# Altium footprint library CR2032-VAY3-15.2.PcbLib: 1 footprints
Each footprint in its own frame and in the unit in brackets; x right, y up, seen from the top. Pads: shape width x height; smd on the part's side, far side on the other; paste and mask are expansions set on the pad; w line width, h text height; cw(c..) or ccw(c..) is an arc to the next point about the centre after c.
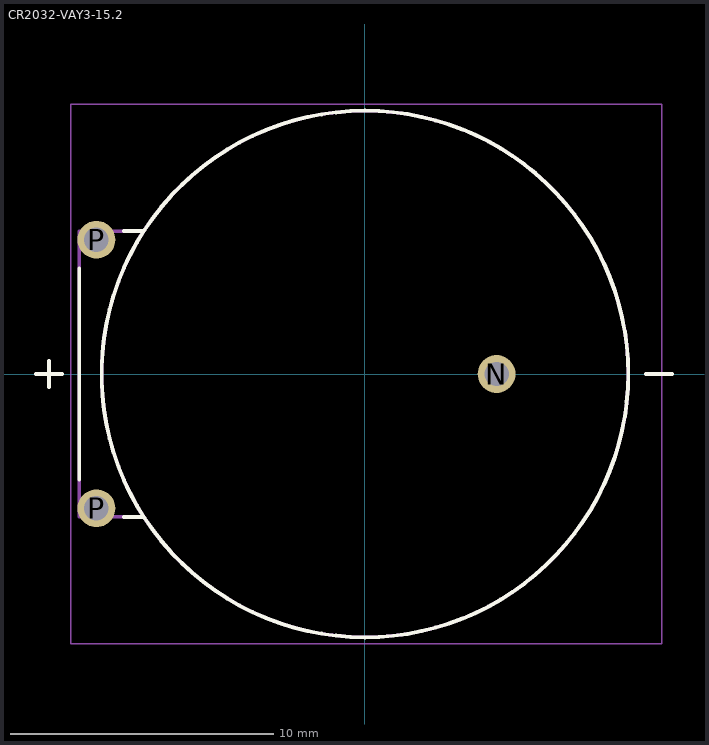
[diagram p0: the footprint, top view; thin cyan lines are the x and y axes]

## CR2032-VAY3-15.2 [mm]
pads (3):
  round 1.438 hole 0.93: N(5,0) P(-10.2,-5.1) P(-10.2,5.1)
Top Overlay:
  lines w0.15: -12.5,0 -11.5,0 ; -12,-0.5 -12,0.5 ; -10.85,-4.011 -10.85,4.011 ; -9.161,-5.425 -8.425,-5.425 ; -9.161,5.425 -8.425,5.425 ; 10.668,0 11.668,0 ; 0,-10 ccw(c0,0) 10,0 ccw(c0,0) 0,10 ccw(c0,0) 0,-10
Mechanical 13:
  circle w0.127: c0,0 r10
  lines w0.127: -12.5,0 -11.5,0 ; -12,-0.5 -12,0.5 ; -8.425,-5.425 -10.85,-5.425 -10.85,5.425 -8.425,5.425 ; 10.668,0 11.668,0
Mechanical 15:
  lines w0.05: -11.169,-10.25 11.269,-10.25 11.269,10.25 -11.169,10.25 -11.169,-10.25
3D body "CR2032-VAY3-15.2.STEP": height 5.1, standoff -3.5, extent -10.35,-10 9.95,10